# EAGLE library part NPN_PNP (library MDT_TRANS)
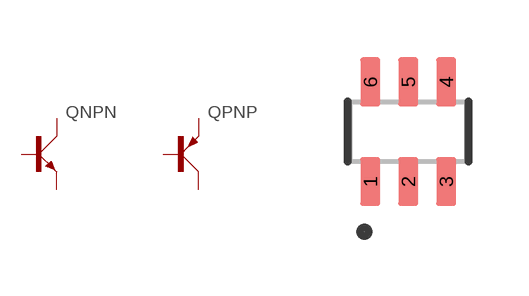
[diagram p0: symbol with the pads of SOT23-6; footprint SOT23-6]

Designator prefix Q; gates NPN=NPN PNP=PNP

## NPN_PNP, NPN_PNPPBSS4140DPN,115 (CURRENT: 1A; DESCRIPTION: TRANS NPN/PNP 40V 1A 6TSOP; DEVICE: PBSS4140DPN; PACKAGE: SOT23-6; PARTNO: PBSS4140DPN,115; VENDOR: Nexperia; VOLTAGE: 40V)  [SOT23-6]
1  NPN:E  pas
2  NPN:B  pas
3  PNP:C  pas
4  PNP:E  pas
5  PNP:B  pas
6  NPN:C  pas

## Footprint SOT23-6 (pad centres in mm)
smd 0.5 x 1.22: 1 -0.95,-1.245; 2 0,-1.245; 3 0.95,-1.245; 4 0.95,1.245; 5 0,1.245; 6 -0.95,1.245